# EAGLE library part HCSERIALBLUETOOTH (library HC_SERIAL_BLUETOOTH)
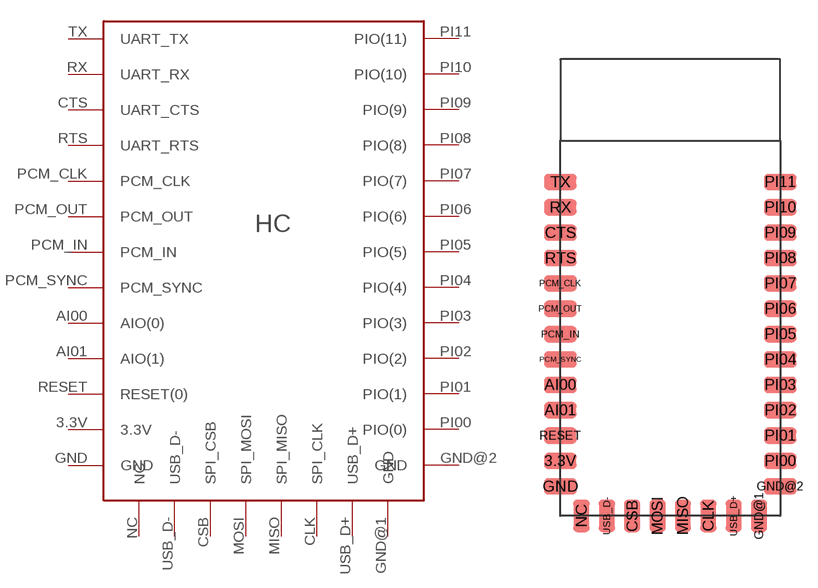
[diagram p0: symbol with the pads of HCSERIALBLUETOOTH; footprint HCSERIALBLUETOOTH]

Designator prefix U

## HCSERIALBLUETOOTH  [HCSERIALBLUETOOTH]
3.3V  3.3V  pwr
AI00  AIO(0)
AI01  AIO(1)
CLK  SPI_CLK
CSB  SPI_CSB
CTS  UART_CTS
GND  GND  pwr
GND@1  GND  pwr
GND@2  GND  pwr
MISO  SPI_MISO
MOSI  SPI_MOSI
NC  NC  nc
PCM_CLK  PCM_CLK
PCM_IN  PCM_IN
PCM_OUT  PCM_OUT
PCM_SYNC  PCM_SYNC
PI00  PIO(0)
PI01  PIO(1)
PI02  PIO(2)
PI03  PIO(3)
PI04  PIO(4)
PI05  PIO(5)
PI06  PIO(6)
PI07  PIO(7)
PI08  PIO(8)
PI09  PIO(9)
PI10  PIO(10)
PI11  PIO(11)
RESET  RESET(0)
RTS  UART_RTS
RX  UART_RX  in
TX  UART_TX  out
USB_D+  USB_D+
USB_D-  USB_D-

## Footprint HCSERIALBLUETOOTH (pad centres in mm)
smd 1.93 x 0.965: 3.3V 0,3.25; AI00 0,7.75; AI01 0,6.25; CTS 0,16.75; GND 0,1.75; GND@2 13,1.75; PCM_CLK 0,13.75; PCM_IN 0,10.75; PCM_OUT 0,12.25; PCM_SYNC 0,9.25; PI00 13,3.25; PI01 13,4.75; PI02 13,6.25; PI03 13,7.75; PI04 13,9.25; PI05 13,10.75; PI06 13,12.25; PI07 13,13.75; PI08 13,15.25; PI09 13,16.75; PI10 13,18.25; PI11 13,19.75; RESET 0,4.75; RTS 0,15.25; RX 0,18.25; TX 0,19.75
smd 0.965 x 1.93: CLK 8.75,0; CSB 4.25,0; GND@1 11.75,0; MISO 7.25,0; MOSI 5.75,0; NC 1.25,0; USB_D+ 10.25,0; USB_D- 2.75,0